# EAGLE library part MIC2039 (library Explore Labs EAGLE Library)
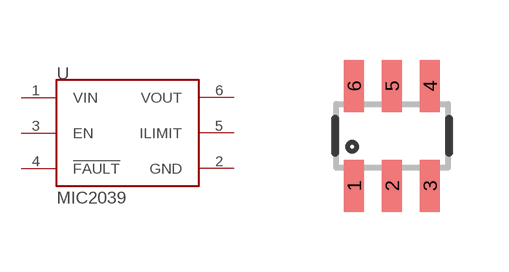
[diagram p25: symbol with the pads of SOT23-6; footprint SOT23-6]

Designator prefix -

## MIC2039AYM6  [SOT23-6]
1  VIN
2  GND
3  EN
4  !FAULT
5  ILIMIT
6  VOUT

## Footprint SOT23-6 (pad centres in mm)
smd 0.5 x 1.3: 1 -0.95,-1.25; 2 0,-1.25; 3 0.95,-1.25; 4 0.95,1.25; 5 0,1.25; 6 -0.95,1.25